# Altium footprint library pcb lib.PcbLib: 160 footprints (part 1 of 10)
Each footprint in its own frame and in the unit in brackets; x right, y up, seen from the top. Pads: shape width x height; smd on the part's side, far side on the other; paste and mask are expansions set on the pad; w line width, h text height; cw(c..) or ccw(c..) is an arc to the next point about the centre after c.
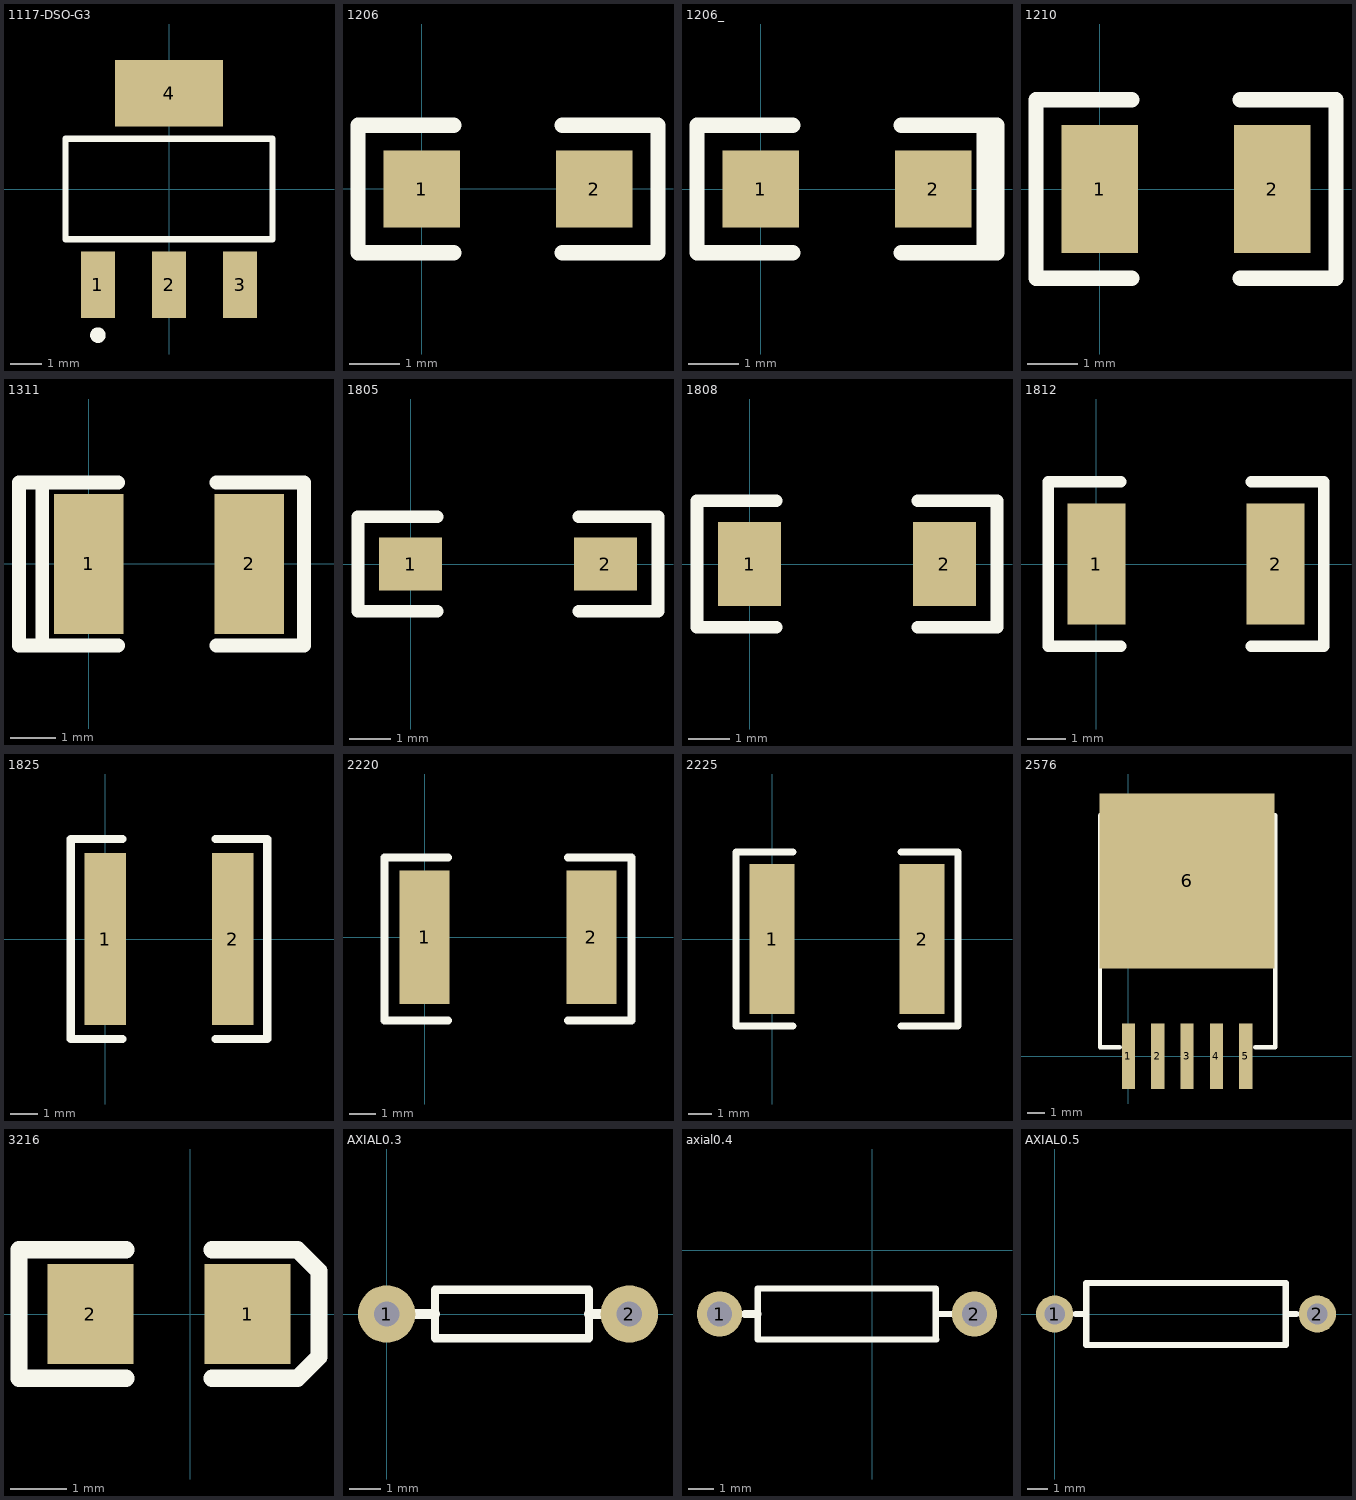
[diagram p0: the footprints below, top view; thin cyan lines are the x and y axes]

## 1117-DSO-G3 [mm] "1117"
pads (4):
  rect 1.1x2.15 smd: 1(-2.3,-3.1) 2(0,-3.1) 3(2.3,-3.1)
  rect 3.5x2.15 smd: 4(0,3.1)
Top Overlay:
  circle w0.25: c-2.3,-4.725 r0.125
  lines w0.2: -3.35,-1.625 -3.35,1.625 3.35,1.625 3.35,-1.625 -3.35,-1.625

## 1206 [mil]
pads (2):
  rect 60x60 smd: 1(-0.06,-0.16) 2(134.94,-0.16)
Top Overlay:
  lines w12: 24.94,-50.16 -50.06,-50.16 -50.06,49.84 24.94,49.84 ; 109.94,-50.16 184.94,-50.16 184.94,49.84 109.94,49.84

## 1206_ [mil]
pads (2):
  rect 60x60 smd: 1(0,0) 2(135,0)
Top Overlay:
  lines w12: 25,-50 -50,-50 -50,50 25,50 ; 110,-50 185,-50 185,50 110,50 ; 175,-50 175,50

## 1210 [mil]
pads (2):
  rect 60x100 smd: 1(0,0) 2(135,0)
Top Overlay:
  lines w12: 25,-70 -50,-70 -50,70 25,70 ; 110,-70 185,-70 185,70 110,70

## 1311 [mil]
pads (2):
  rect 60x120 smd: 1(0,0) 2(138,0)
Top Overlay:
  lines w11.81: -60,-70 -60,70 ; -40,-70 -40,70
  lines w12: -60,-70 25,-70 ; -60,70 25,70 ; 110,-70 185,-70 185,70 110,70

## 1805 [mil]
pads (2):
  rect 60x50 smd: 1(0,0) 2(185,0)
Top Overlay:
  lines w12: 25,-45 -50,-45 -50,45 25,45 ; 160,-45 235,-45 235,45 160,45

## 1808 [mil]
pads (2):
  rect 60x80 smd: 1(0,0) 2(185,0)
Top Overlay:
  lines w12: 25,-60 -50,-60 -50,60 25,60 ; 160,-60 235,-60 235,60 160,60

## 1812 [mil]
pads (2):
  rect 60x125 smd: 1(0,0) 2(185,0)
Top Overlay:
  lines w12: 25,-85 -50,-85 -50,85 25,85 ; 160,-85 235,-85 235,85 160,85

## 1825 [mil]
pads (2):
  rect 60x250 smd: 1(0,0) 2(185,0)
Top Overlay:
  lines w12: 25,-145 -50,-145 -50,145 25,145 ; 160,-145 235,-145 235,145 160,145

## 2220 [mm]
pads (2):
  rect 1.905x5.08 smd: 1(0,0) 2(6.35,0)
Top Overlay:
  lines w0.305: 0.889,-3.175 -1.524,-3.175 -1.524,3.048 0.889,3.048 ; 5.461,-3.175 7.874,-3.175 7.874,3.048 5.461,3.048

## 2225 [mm]
pads (2):
  rect 1.905x6.35 smd: 1(0,0) 2(6.35,0)
Top Overlay:
  lines w0.305: 0.889,-3.683 -1.524,-3.683 -1.524,3.683 0.889,3.683 ; 5.461,-3.683 7.874,-3.683 7.874,3.683 5.461,3.683

## 2576 [mil]
pads (6):
  rect 30x150 smd: 1(0,0) 2(67,0) 3(134,0) 4(201,0) 5(268,0)
  rect 400x400 smd: 6(134,400)
Top Overlay:
  lines w10: -20,20 -65,20 -65,550 335,550 335,20 290,20

## 3216 [mil]
pads (2):
  rect 60x70 smd: 1(40,0) 2(-70,0)
Top Overlay:
  lines w12: -45,-45 -120,-45 -120,45 -45,45 ; 15,-45 75,-45 90,-30 90,30 75,45 15,45

## AXIAL0.3 [mm]
pads (2):
  round 1.8 hole 0.8: 1(0,0) 2(7.62,0)
Top Overlay:
  lines w0.254: 1.524,-0.762 1.524,0.762 6.35,0.762 6.35,-0.762 1.524,-0.762
  lines w0.305: 0.762,0 1.524,0 ; 6.35,0 6.858,0

## axial0.4 [mm]
pads (2):
  round 1.8 hole 1: 1(-6.096,-2.54) 2(4.064,-2.54)
Top Overlay:
  lines w0.254: 2.516,-3.532 2.516,-1.524 -4.572,-1.524 -4.572,-3.556 2.54,-3.556 ; 2.516,-2.54 3.302,-2.54
  lines w0.305: -5.08,-2.54 -4.572,-2.54

## AXIAL0.5 [mm]
pads (2):
  round 1.8 hole 1: 1(0,0) 2(12.7,0)
Top Overlay:
  lines w0.3: 11.176,-1.5 11.176,1.5
  lines w0.305: 1.016,0 1.524,0 ; 11.176,-1.5 1.524,-1.5 1.524,1.5 11.176,1.5 ; 11.176,0 11.684,0